# Altium schematic symbol library BIRD.SchLib: 24 symbols
Pins are listed as number, name and electrical type; pins without a type are passive.

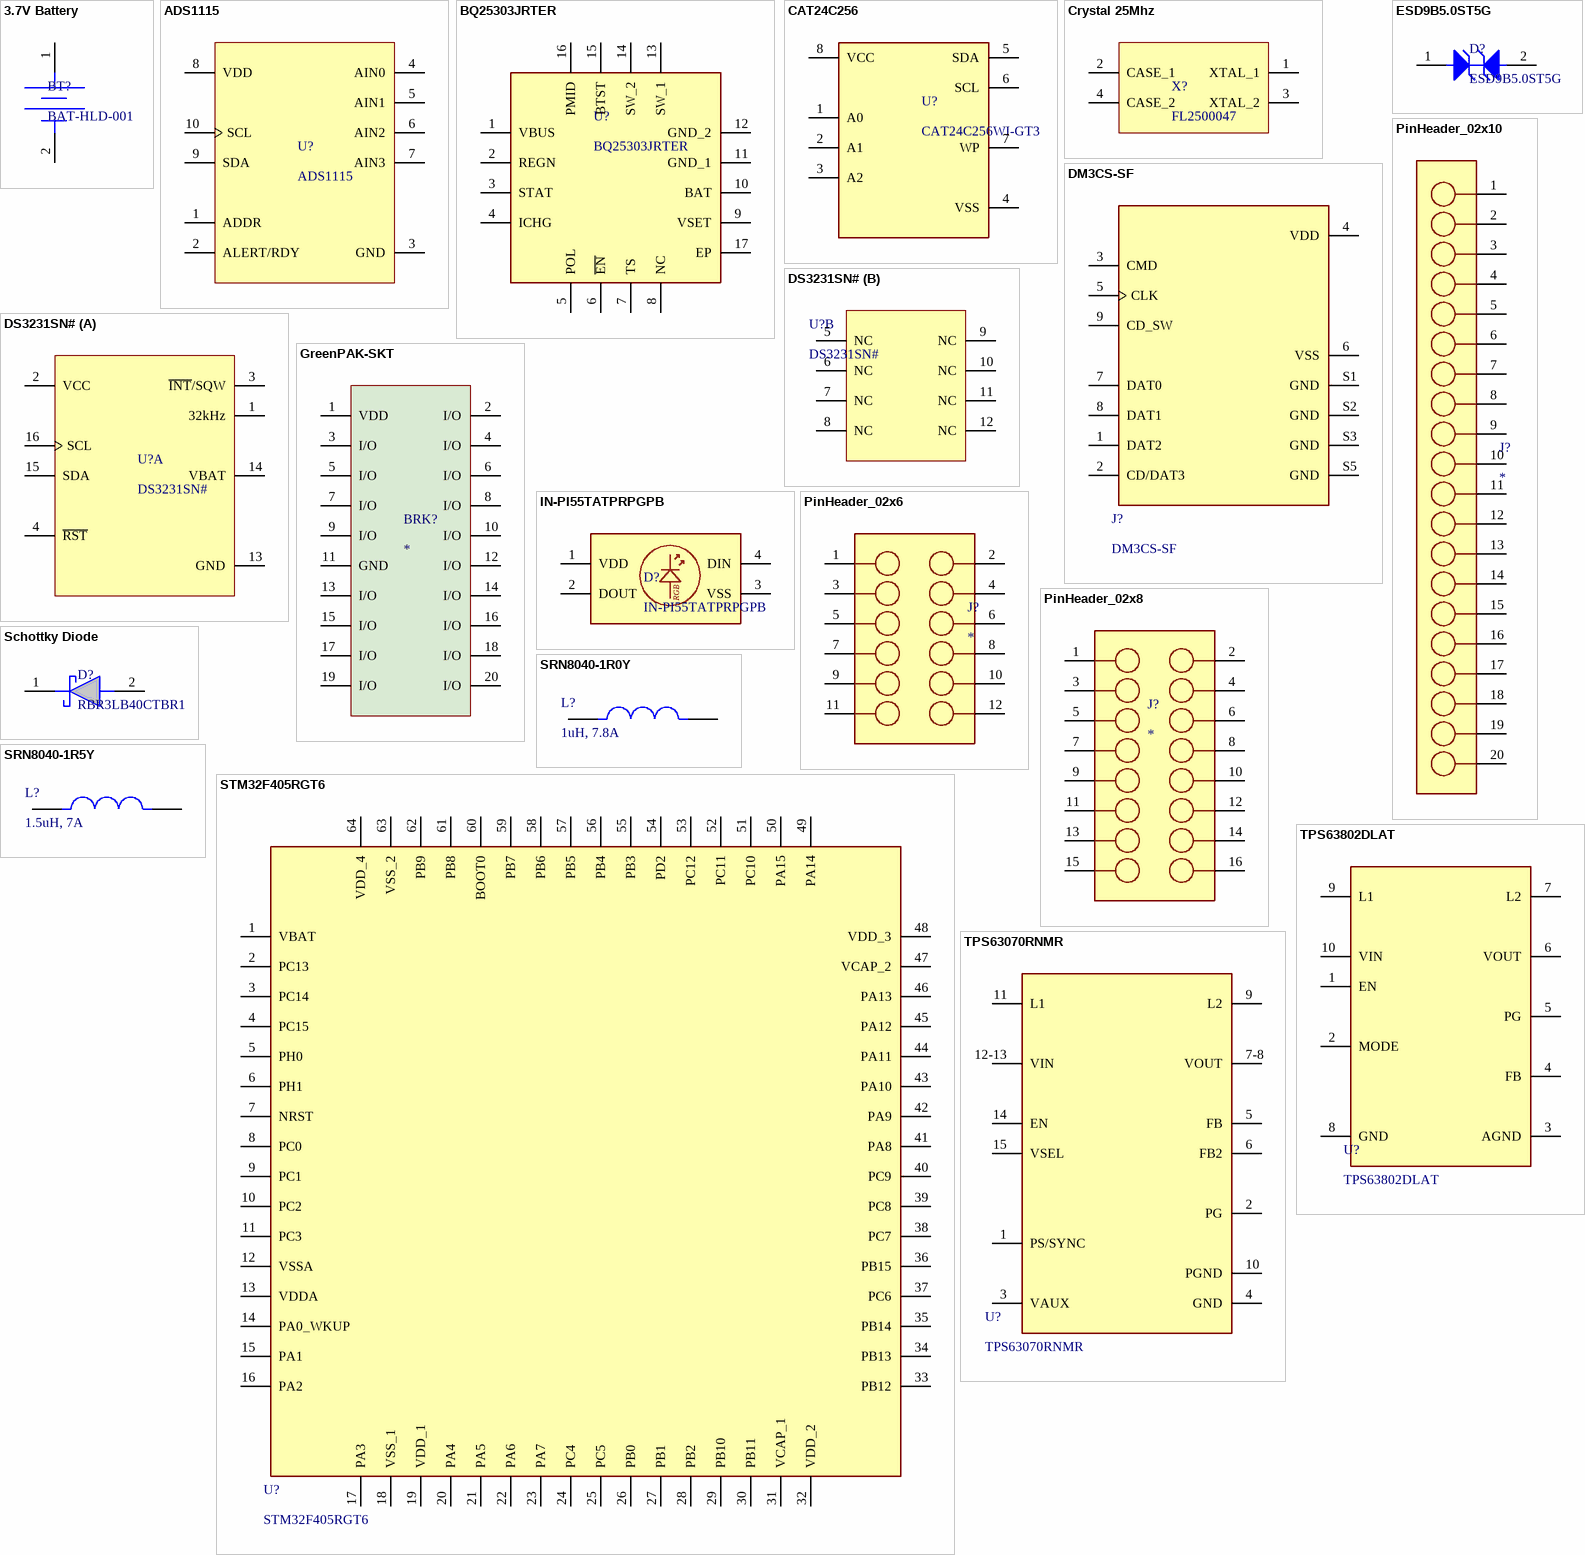
[diagram p0: symbols 3.7V Battery to TPS63802DLAT]

## 3.7V Battery
designator BT?, comment BAT-HLD-001
Coin Cell Battery Holders Linx CR2032 Battery Holder; Manufacturer: TE Connectivity; Manufacturer Part Number: BAT-HLD-001; ComponentLink1Description: Datasheet; ComponentLink1URL: https://www.te.com/commerce/DocumentDelivery/DDEController?Action=srchrtrv&DocNm=C-BAT-HLD-001-xx&DocType=Customer+Drawing&DocLang=English&DocFormat=pdf&PartCntxt=BAT-HLD-001
footprint BAT-HLD-001 (BATT RETAINER COIN 20MM 1CEL SMD)
footprint S8421-45R (Battery Holder)
pins: 1, 2

## ADS1115
designator U?
ADS111x Ultra-Small, Low-Power, I / 2C-Compatible, 860-SPS, 16-Bit ADCs / With Internal Reference, Oscillator, and Programmable Comparator; Manufacturer Part Number: ADS1115IDGST; Manufacturer: Texas Instruments; ComponentLink1Description: Datasheet; ComponentLink1URL: https://www.ti.com/lit/ds/symlink/ads1114.pdf
footprint ADS1115IDGST
pins: 1 ADDR "I2C slave address select", 2 ALERT/RDY (oc) "Digital comparator output or conversion ready", 3 GND (power) "Ground", 4 AIN0 "Differential channel 1: Positive input or single-ended channel 1 input", 5 AIN1 "Differential channel 1: Negative input or single-ended channel 2 input", 6 AIN2 "Differential channel 2: Positive input or single-ended channel 3 input", 7 AIN3 "Differential channel 2: Negative input or single-ended channel 4 input", 8 VDD (power) "Power supply: 2.0V to 5.5V", 9 SDA "Serial data: Transmits and receives data", 10 SCL "Serial clock input: Clocks data on SDA"

## BQ25303JRTER
designator U?
Battery Management Standalone 1-cell 17-V, 3.0-A battery charger with JEITA battery temperature monitoring 16-WQFN -40 to 85; Manufacturer: Texas Instruments; Manufacturer Part Number: BQ25303JRTER; ComponentLink1Description: Datasheet; ComponentLink1URL: https://www.ti.com/lit/ds/symlink/bq25303j.pdf?HQS=dis-mous-null-mousermode-dsf-pf-null-wwe&ts=1695382983732&ref_url=https%253A%252F%252Fwww.mouser.com%252F
footprint BQ25303JRTER (Battery Management Standalone 1-cell 17-V, 3.0-A battery charger with JEITA battery temperature monitoring 16-WQFN -40 to 85)
pins: 1 VBUS, 2 REGN, 3 STAT, 4 ICHG, 5 POL, 6 ~{EN}, 7 TS, 8 NC, 9 VSET, 10 BAT, 11 GND_1, 12 GND_2, 13 SW_1, 14 SW_2, 15 BTST, 16 PMID, 17 EP

## CAT24C256
designator U?, comment CAT24C256WI-GT3
EEPROM Serial-I2C 256K-bit 32K x 8 2.5V/3.3V/5V 8-Pin SOIC N T/R; Manufacturer Part Number: CAT24C04WI-GT3; Manufacturer: onsemi; ComponentLink1Description: Datasheet; ComponentLink1URL: https://www.onsemi.com/pdf/datasheet/cat24c01-d.pdf
footprint CAT24C256 (The CAT24C256 is a EEPROM Serial 256-Kb I2C, internally organized as 512 pages of 64 bytes each, for a total of 32,768 bytes of 8 bits each)
pins: 1 A0, 2 A1, 3 A2, 4 VSS, 5 SDA, 6 SCL, 7 WP, 8 VCC

## Crystal 25Mhz
designator X?, comment FL2500047
Crystals 25.000MHz 18pF 20ppm -20 to +70; Manufacturer: Diodes Incorporated; Manufacturing Part Number: FL2500047; ComponentLink1Description: Datasheet; ComponentLink1URL: https://www.diodes.com/assets/Datasheets/FL.pdf
footprint 4-SMD (3.20mm x 2.50mm) (Crystal :  0.126" L x 0.098" W (3.20mm x 2.50mm))
pins: 1 XTAL_1, 2 CASE_1, 3 XTAL_2, 4 CASE_2

## DM3CS-SF
designator J?
10 (8 + 2) Position Card Connector Secure Digital - microSD™ Surface Mount, Right Angle Gold; Manufacturer: Hirose Electric Co Ltd; Manufacturer Part Number: DM3CS-SF; ComponentLink1Description: Datasheet; ComponentLink1URL: https://www.hirose.com/product/document?clcode=CL0609-0033-6-00&productname=DM3AT-SF-PEJ2M5&series=DM3&documenttype=Catalog&lang=en&documentid=D49662_en
footprint DM3CS-SF (10 (8 + 2) Position Card Connector Secure Digital - microSD™ Surface Mount, Right Angle Gold)
pins: 1 DAT2, 2 CD/DAT3, 3 CMD, 4 VDD, 5 CLK, 6 VSS, 7 DAT0, 8 DAT1, 9 CD_SW, S1 GND, S2 GND, S3 GND, S5 GND

## DS3231SN#
designator U?
Real Time Clock Extremely Accurate I C-Integrated RTC/TCXO/Crystal; Manufacturer: Analog Devices; ComponentLink1Description: Datasheet; ComponentLink1URL: https://www.analog.com/media/en/technical-documentation/data-sheets/DS3231.pdf; Manufacturer Part Number: DS3231SN#
footprint DS3231SN# (Extremely Accurate I²C-Integrated RTC/TCXO/Crystal)
part A pins: 1 32kHz (oc), 2 VCC (power), 3 ~{INT}/SQW, 4 ~{RST}, 13 GND (power), 14 VBAT (power), 15 SDA, 16 SCL
part B pins: 5 NC, 6 NC, 7 NC, 8 NC, 9 NC, 10 NC, 11 NC, 12 NC

## ESD9B5.0ST5G
designator D?
ESD Suppressors / TVS Diodes BiDIRECTIONAL ESD PROTECTION; Manufacturer: onsemi; Manufacturer Part Number: ESD9B5.0ST5G; ComponentLink1Description: Datasheet; ComponentLink1URL: https://www.onsemi.cn/pdf/datasheet/esd9b-d.pdf
footprint SOD-923-2
pins: 1 A1, 2 A2

## GreenPAK-SKT
designator BRK?
GreenPAK™ is a broad family of cost-effective non-volatile memory (NVM) programmable devices that enable innovators to integrate many system functions into a single custom circuit, and in the process minimize component count, board space, and power consumption. Using GreenPAK Designer Software and GreenPAK Development Kit, designers can create and program your perfect custom circuit in minutes.
footprint GREENPAK_02X10_P2.54mm
pins: 1 VDD, 2 I/O, 3 I/O, 4 I/O, 5 I/O, 6 I/O, 7 I/O, 8 I/O, 9 I/O, 10 I/O, 11 GND, 12 I/O, 13 I/O, 14 I/O, 15 I/O, 16 I/O, 17 I/O, 18 I/O, 19 I/O, 20 I/O

## IN-PI55TATPRPGPB
designator D?
Standard LEDs - SMD Top View PLCC 5.0x5.0x1.6 4-pin Tricolor with IC; Manufacturer: Inolux; Manufacturer Part Number: IN-PI55TATPRPGPB; ComponentLink1Description: Datasheet; ComponentLink1URL: https://www.mouser.com/datasheet/2/180/IN_PI55TAT_X_R_X_G_X_B_v1_4-3006829.pdf
footprint IN-PI55TATPRPGPB (Standard LEDs - SMD Top View PLCC 5.0x5.0x1.6 4-pin Tricolor with IC)
pins: 1 VDD, 2 DOUT, 3 VSS, 4 DIN
text: RGB

## PinHeader_02x6
designator J?
PinHeader_02x6
footprint PinHeader_02x6_P2.54mm
pins: 1, 2, 3, 4, 5, 6, 7, 8, 9, 10, 11, 12

## PinHeader_02x8
designator J?
PinHeader_02x8
footprint PinHeader_02x08_P2.54
pins: 1, 2, 3, 4, 5, 6, 7, 8, 9, 10, 11, 12, 13, 14, 15, 16

## PinHeader_02x10
designator J?
PinHeader_02x10
footprint PinHeader_02X10_P2.54mm
pins: 1, 2, 3, 4, 5, 6, 7, 8, 9, 10, 11, 12, 13, 14, 15, 16, 17, 18, 19, 20

## Schottky Diode
designator D?, comment RBR3LB40CTBR1
LOW VF, 40V, 3A, SMBP, SCHOTTKY; Manufacturer: ROHM Semiconductor; Manufacturer Part Number: RBR3LB40CTBR1; ComponentLink1Description: Datasheet; ComponentLink1URL: https://www.mouser.com/datasheet/2/348/rbr3lb40ctbr1_e-3103781.pdf
footprint DO-214AA, SMB
pins: 1 K, 2 A

## SRN8040-1R0Y
designator L?, comment 1uH, 7.8A
1 µH Semi-Shielded Drum Core, Wirewound Inductor 7.8 A 10mOhm Max Nonstandard; Manufacturer Part Number: SRN8040-1R5Y; Manufacturer: Bourns Inc.; ComponentLink1Description: Datasheet; ComponentLink1URL: https://www.bourns.com/docs/Product-Datasheets/SRN8040.pdf
footprint SRN8040-1R5Y (1.5 µH Semi-Shielded Drum Core, Wirewound Inductor 7 A 11mOhm Max Nonstandard)
pins: 1, 2

## SRN8040-1R5Y
designator L?, comment 1.5uH, 7A
1.5 µH Semi-Shielded Drum Core, Wirewound Inductor 7 A 11mOhm Max Nonstandard; Manufacturer Part Number: SRN8040-1R5Y; Manufacturer: Bourns Inc.; ComponentLink1Description: Datasheet; ComponentLink1URL: https://www.bourns.com/docs/Product-Datasheets/SRN8040.pdf
footprint SRN8040-1R5Y (1.5 µH Semi-Shielded Drum Core, Wirewound Inductor 7 A 11mOhm Max Nonstandard)
pins: 1, 2

## STM32F405RGT6
designator U?
ARM Microcontrollers - MCU ARM M4 1024 FLASH 168 Mhz 192kB SRAM; Manufacturer: STMicroelectronics; ComponentLink1Description: Datasheet; ComponentLink1URL: https://www.st.com/resource/en/datasheet/stm32f405rg.pdf; Manufacturer Part Number: STM32F405RGT6
footprint STM32F405RGT6 (ARM Microcontrollers - MCU ARM M4 1024 FLASH 168 Mhz 192kB SRAM)
pins: 1 VBAT, 2 PC13, 3 PC14, 4 PC15, 5 PH0, 6 PH1, 7 NRST, 8 PC0, 9 PC1, 10 PC2, 11 PC3, 12 VSSA, 13 VDDA, 14 PA0_WKUP, 15 PA1, 16 PA2, 17 PA3, 18 VSS_1, 19 VDD_1, 20 PA4, 21 PA5, 22 PA6, 23 PA7, 24 PC4, 25 PC5, 26 PB0, 27 PB1, 28 PB2, 29 PB10, 30 PB11, 31 VCAP_1, 32 VDD_2, 33 PB12, 34 PB13, 35 PB14, 36 PB15, 37 PC6, 38 PC7, 39 PC8, 40 PC9, 41 PA8, 42 PA9, 43 PA10, 44 PA11, 45 PA12, 46 PA13, 47 VCAP_2, 48 VDD_3, 49 PA14, 50 PA15, 51 PC10, 52 PC11, 53 PC12, 54 PD2, 55 PB3, 56 PB4, 57 PB5, 58 PB6, 59 PB7, 60 BOOT0, 61 PB8, 62 PB9, 63 VSS_2, 64 VDD_4

## TPS63070RNMR
designator U?
Wide input voltage (2V-16V) buck-boost converter 15-VQFN-HR -40 to 125; Manufacturer: Texas Instruments; ComponentLink1Description: Datasheet; ComponentLink1URL: https://www.ti.com/lit/gpn/TPS63070; Manufacturer Part Number: TPS63070RNMR
footprint TPS63070RNMR (Switching Voltage Regulators Wide input voltage (2V-16V) buck-boost converter 15-VQFN-HR -40 to 125)
pins: 1 PS/SYNC, 2 PG, 3 VAUX, 4 GND, 5 FB, 6 FB2, 7-8 VOUT, 9 L2, 10 PGND, 11 L1, 12-13 VIN, 14 EN, 15 VSEL

## TPS63802DLAT
designator U?
Switching Voltage Regulators 2-A, high-efficient, 11- uA quiescent current buck-boost converter in QFN/DFN package 10-VSON-HR -40 to 125; Manufacturer: Texas Instruments; Manufacturer Part Number: TPS63802DLAT; ComponentLink1Description: Datasheet; ComponentLink1URL: https://www.ti.com/lit/gpn/TPS63802
footprint TPS63802DLAT (2-A, high-efficient, 11-µA quiescent current buck-boost converter in QFN/DFN package)
pins: 1 EN, 2 MODE, 3 AGND, 4 FB, 5 PG, 6 VOUT, 7 L2, 8 GND, 9 L1, 10 VIN

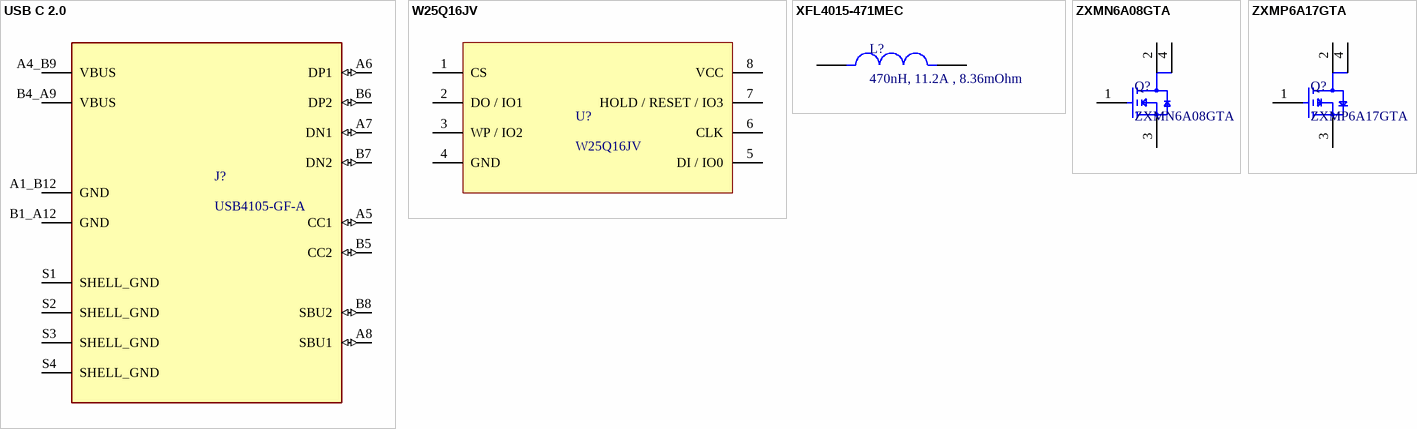
[diagram p1: symbols USB C 2.0 to ZXMP6A17GTA]

## USB C 2.0
designator J?, comment USB4105-GF-A
USB-C (USB TYPE-C) USB 2.0 Receptacle Connector 24 (16+8 Dummy) Position Surface Mount, Right Angle; Through Hole; Manufacturer: GCT; Manufacturer Part Number: USB4105-GF-A; ComponentLink1Description: Datasheet; ComponentLink1URL: https://mm.digikey.com/Volume0/opasdata/d220001/medias/docus/5492/USB4105.pdf
footprint USB4105-GF-A (USB-C (USB TYPE-C) USB 2.0 Receptacle Connector 24 (16+8 Dummy) Position Surface Mount, Right Angle; Through Hole)
pins: A1_B12 GND (power), A4_B9 VBUS (power), A5 CC1 (io), A6 DP1 (io), A7 DN1 (io), A8 SBU1 (io), B1_A12 GND (power), B4_A9 VBUS (power), B5 CC2 (io), B6 DP2 (io), B7 DN2 (io), B8 SBU2 (io), S1 SHELL_GND (power), S2 SHELL_GND (power), S3 SHELL_GND (power), S4 SHELL_GND (power)

## W25Q16JV
designator U?
3V 16M-BIT SERIAL FLASH MEMORY WITH DUAL/QUAD SPI; Manufacturer Part Number: W25Q16JVSSIQ TR; Manufacturer: Winbond Electronics; ComponentLink1Description: Datasheet; ComponentLink1URL: https://www.winbond.com/resource-files/w25q16jv%20spi%20revg%2003222018%20plus.pdf
footprint W25Q16JV (FLASH - NOR Memory IC 16Mbit SPI - Quad I/O 133 MHz 8-SOIC)
pins: 1 CS, 2 DO / IO1, 3 WP / IO2, 4 GND, 5 DI / IO0, 6 CLK, 7 HOLD / RESET / IO3, 8 VCC

## XFL4015-471MEC
designator L?, comment 470nH, 11.2A , 8.36mOhm
Power Inductors - SMD 470nH Shld 11.2A 8.36mOhm AECQ2; Manufacturer Part Number: XFL4015-471MEC; Manufacturer: Coilcraft; ComponentLink1Description: Datasheet; ComponentLink1URL: https://www.coilcraft.com/getmedia/84927b8b-f089-421b-a7f4-a0fa23afe908/xfl4015.pdf
footprint XFL4015-471MEC (Power Inductors - SMD 470nH Shld 11.2A 8.36mOhm AECQ2)
pins: 1, 2

## ZXMN6A08GTA
designator Q?
MOSFET N-CH 60V 3.8A SOT223; Manufacturer: Diodes Incorporated; Manufacturing Part Number: ZXMN6A08GTA; ComponentLink1Description: Datasheet; ComponentLink1URL: https://www.diodes.com/assets/Datasheets/ZXMN6A08G.pdf
footprint SOT-223
pins: 1 G, 2 D, 3 S, 4 D

## ZXMP6A17GTA
designator Q?
MOSFET P-CH 60V 3A SOT223; Manufacturer: DIODES; Manufacturing Part Number: ZXMP6A17GTA; ComponentLink1Description: Datasheet; ComponentLink1URL: https://www.diodes.com/assets/Datasheets/ZXMP6A17G.pdf
footprint SOT-223
pins: 1 G, 2 D, 3 S, 4 D